# Altium footprint library Connectors.PcbLib: 77 footprints (part 5 of 5)
Each footprint in its own frame and in the unit in brackets; x right, y up, seen from the top. Pads: shape width x height; smd on the part's side, far side on the other; paste and mask are expansions set on the pad; w line width, h text height; cw(c..) or ccw(c..) is an arc to the next point about the centre after c.
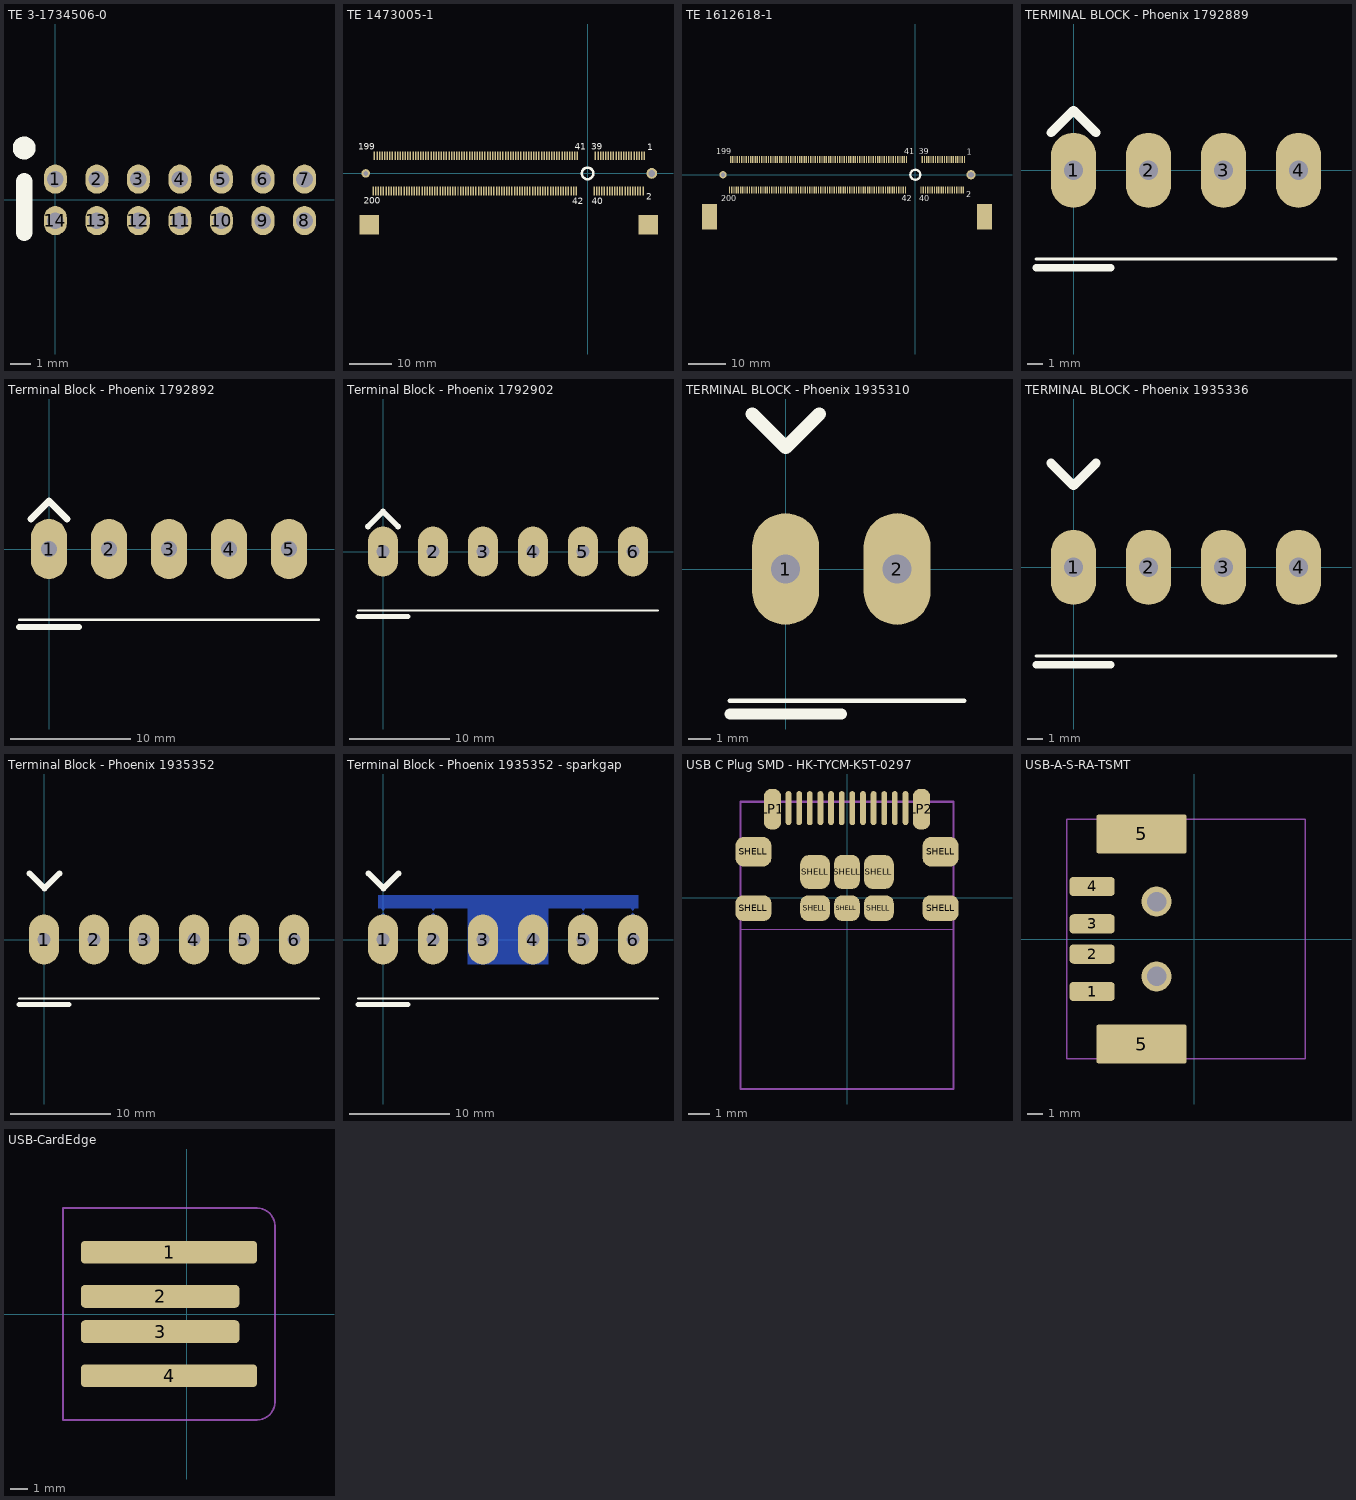
[diagram p4: the footprints below, top view; thin cyan lines are the x and y axes]

## TE 3-1734506-0 [mm] "14-pin female header, 2mm pitch"
pads (14):
  oval 1.1x1.4 hole 0.8 paste-99: 1(0,1) 2(2,1) 3(4,1) 4(6,1) 5(8,1) 6(10,1) 7(12,1) 8(12,-1) 9(10,-1) 10(8,-1) 11(6,-1) 12(4,-1) 13(2,-1) 14(0,-1)
Top Overlay:
  circle w0.6: c-1.5,2.5 r0.25
  lines w0.8: -1.5,-1.59 -1.5,0.9
3D body "c-3-1734506-0-b-3d.stp": height 4.5, standoff -2.6, extent -1,-2 13,2

## TE 1473005-1 [mm]
height 5.2
pads (204):
  rect 0.35x2 smd paste-0.025 mask+0.07: 1(13.25,4.1) 2(12.95,-4.1) 3(12.65,4.1) 4(12.35,-4.1) 5(12.05,4.1) 6(11.75,-4.1) 7(11.45,4.1) 8(11.15,-4.1) 9(10.85,4.1) 10(10.55,-4.1) 11(10.25,4.1) 12(9.95,-4.1) 13(9.65,4.1) 14(9.35,-4.1) 15(9.05,4.1) 16(8.75,-4.1) 17(8.45,4.1) 18(8.15,-4.1) 19(7.85,4.1) 20(7.55,-4.1) 21(7.25,4.1) 22(6.95,-4.1) 23(6.65,4.1) 24(6.35,-4.1) 25(6.05,4.1) 26(5.75,-4.1) 27(5.45,4.1) 28(5.15,-4.1) 29(4.85,4.1) 30(4.55,-4.1) 31(4.25,4.1) 32(3.95,-4.1) 33(3.65,4.1) 34(3.35,-4.1) 35(3.05,4.1) 36(2.75,-4.1) 37(2.45,4.1) 38(2.15,-4.1) 39(1.85,4.1) 40(1.55,-4.1) 41(-2.35,4.1) 42(-2.65,-4.1) 43(-2.95,4.1) 44(-3.25,-4.1) 45(-3.55,4.1) 46(-3.85,-4.1) 47(-4.15,4.1) 48(-4.45,-4.1) 49(-4.75,4.1) 50(-5.05,-4.1) 51(-5.35,4.1) 52(-5.65,-4.1) 53(-5.95,4.1) 54(-6.25,-4.1) 55(-6.55,4.1) 56(-6.85,-4.1) 57(-7.15,4.1) 58(-7.45,-4.1) 59(-7.75,4.1) 60(-8.05,-4.1) 61(-8.35,4.1) 62(-8.65,-4.1) 63(-8.95,4.1) 64(-9.25,-4.1) 65(-9.55,4.1) 66(-9.85,-4.1) 67(-10.15,4.1) 68(-10.45,-4.1) 69(-10.75,4.1) 70(-11.05,-4.1) 71(-11.35,4.1) 72(-11.65,-4.1) 73(-11.95,4.1) 74(-12.25,-4.1) 75(-12.55,4.1) 76(-12.85,-4.1) 77(-13.15,4.1) 78(-13.45,-4.1) 79(-13.75,4.1) 80(-14.05,-4.1) 81(-14.35,4.1) 82(-14.65,-4.1) 83(-14.95,4.1) 84(-15.25,-4.1) 85(-15.55,4.1) 86(-15.85,-4.1) 87(-16.15,4.1) 88(-16.45,-4.1) 89(-16.75,4.1) 90(-17.05,-4.1) 91(-17.35,4.1) 92(-17.65,-4.1) 93(-17.95,4.1) 94(-18.25,-4.1) 95(-18.55,4.1) 96(-18.85,-4.1) 97(-19.15,4.1) 98(-19.45,-4.1) 99(-19.75,4.1) 100(-20.05,-4.1) 101(-20.35,4.1) 102(-20.65,-4.1) 103(-20.95,4.1) 104(-21.25,-4.1) 105(-21.55,4.1) 106(-21.85,-4.1) 107(-22.15,4.1) 108(-22.45,-4.1) 109(-22.75,4.1) 110(-23.05,-4.1) 111(-23.35,4.1) 112(-23.65,-4.1) 113(-23.95,4.1) 114(-24.25,-4.1) 115(-24.55,4.1) 116(-24.85,-4.1) 117(-25.15,4.1) 118(-25.45,-4.1) 119(-25.75,4.1) 120(-26.05,-4.1) 121(-26.35,4.1) 122(-26.65,-4.1) 123(-26.95,4.1) 124(-27.25,-4.1) 125(-27.55,4.1) 126(-27.85,-4.1) 127(-28.15,4.1) 128(-28.45,-4.1) 129(-28.75,4.1) 130(-29.05,-4.1) 131(-29.35,4.1) 132(-29.65,-4.1) 133(-29.95,4.1) 134(-30.25,-4.1) 135(-30.55,4.1) 136(-30.85,-4.1) 137(-31.15,4.1) 138(-31.45,-4.1) 139(-31.75,4.1) 140(-32.05,-4.1) 141(-32.35,4.1) 142(-32.65,-4.1) 143(-32.95,4.1) 144(-33.25,-4.1) 145(-33.55,4.1) 146(-33.85,-4.1) 147(-34.15,4.1) 148(-34.45,-4.1) 149(-34.75,4.1) 150(-35.05,-4.1) 151(-35.35,4.1) 152(-35.65,-4.1) 153(-35.95,4.1) 154(-36.25,-4.1) 155(-36.55,4.1) 156(-36.85,-4.1) 157(-37.15,4.1) 158(-37.45,-4.1) 159(-37.75,4.1) 160(-38.05,-4.1) 161(-38.35,4.1) 162(-38.65,-4.1) 163(-38.95,4.1) 164(-39.25,-4.1) 165(-39.55,4.1) 166(-39.85,-4.1) 167(-40.15,4.1) 168(-40.45,-4.1) 169(-40.75,4.1) 170(-41.05,-4.1) 171(-41.35,4.1) 172(-41.65,-4.1) 173(-41.95,4.1) 174(-42.25,-4.1) 175(-42.55,4.1) 176(-42.85,-4.1) 177(-43.15,4.1) 178(-43.45,-4.1) 179(-43.75,4.1) 180(-44.05,-4.1) 181(-44.35,4.1) 182(-44.65,-4.1) 183(-44.95,4.1) 184(-45.25,-4.1) 185(-45.55,4.1) 186(-45.85,-4.1) 187(-46.15,4.1) 188(-46.45,-4.1) 189(-46.75,4.1) 190(-47.05,-4.1) 191(-47.35,4.1) 192(-47.65,-4.1) 193(-47.95,4.1) 194(-48.25,-4.1) 195(-48.55,4.1) 196(-48.85,-4.1) 197(-49.15,4.1) 198(-49.45,-4.1) 199(-49.75,4.1) 200(-50.05,-4.1)
  round 2 hole 1.1: ""(-51.8,0)
  rect 4.5x4.6 smd paste-0.025 mask+0.07: ""(-50.95,-12) ""(14.15,-12)
  round 2.5 hole 1.6: ""(15,0)
Top Overlay:
  circle w0.6: c0,0 r1.345
  text "42" at -3.6,-7.2 h1.52
  text "40" at 1,-7.2 h1.52
  text "200" at -52.3,-7.1 h1.52
  text "199" at -53.6,5.5 h1.52
  text "41" at -3,5.5 h1.52
  text "39" at 0.9,5.5 h1.52
  text "2" at 13.7,-6.1 h1.52
  text "1" at 13.9,5.4 h1.52
Assembly:
  text ".Designator" at -22.4,-0.2 h1.1
3D body "c-1473005-1-j1-3d.stp": height 5.2, standoff -0.7, extent -54.15,-21.05 17.35,5

## TE 1612618-1 [mm]
height 5.2
pads (204):
  rect 0.35x2 smd paste-0.025 mask+0.07: 1(13.25,4.1) 2(12.95,-4.1) 3(12.65,4.1) 4(12.35,-4.1) 5(12.05,4.1) 6(11.75,-4.1) 7(11.45,4.1) 8(11.15,-4.1) 9(10.85,4.1) 10(10.55,-4.1) 11(10.25,4.1) 12(9.95,-4.1) 13(9.65,4.1) 14(9.35,-4.1) 15(9.05,4.1) 16(8.75,-4.1) 17(8.45,4.1) 18(8.15,-4.1) 19(7.85,4.1) 20(7.55,-4.1) 21(7.25,4.1) 22(6.95,-4.1) 23(6.65,4.1) 24(6.35,-4.1) 25(6.05,4.1) 26(5.75,-4.1) 27(5.45,4.1) 28(5.15,-4.1) 29(4.85,4.1) 30(4.55,-4.1) 31(4.25,4.1) 32(3.95,-4.1) 33(3.65,4.1) 34(3.35,-4.1) 35(3.05,4.1) 36(2.75,-4.1) 37(2.45,4.1) 38(2.15,-4.1) 39(1.85,4.1) 40(1.55,-4.1) 41(-2.35,4.1) 42(-2.65,-4.1) 43(-2.95,4.1) 44(-3.25,-4.1) 45(-3.55,4.1) 46(-3.85,-4.1) 47(-4.15,4.1) 48(-4.45,-4.1) 49(-4.75,4.1) 50(-5.05,-4.1) 51(-5.35,4.1) 52(-5.65,-4.1) 53(-5.95,4.1) 54(-6.25,-4.1) 55(-6.55,4.1) 56(-6.85,-4.1) 57(-7.15,4.1) 58(-7.45,-4.1) 59(-7.75,4.1) 60(-8.05,-4.1) 61(-8.35,4.1) 62(-8.65,-4.1) 63(-8.95,4.1) 64(-9.25,-4.1) 65(-9.55,4.1) 66(-9.85,-4.1) 67(-10.15,4.1) 68(-10.45,-4.1) 69(-10.75,4.1) 70(-11.05,-4.1) 71(-11.35,4.1) 72(-11.65,-4.1) 73(-11.95,4.1) 74(-12.25,-4.1) 75(-12.55,4.1) 76(-12.85,-4.1) 77(-13.15,4.1) 78(-13.45,-4.1) 79(-13.75,4.1) 80(-14.05,-4.1) 81(-14.35,4.1) 82(-14.65,-4.1) 83(-14.95,4.1) 84(-15.25,-4.1) 85(-15.55,4.1) 86(-15.85,-4.1) 87(-16.15,4.1) 88(-16.45,-4.1) 89(-16.75,4.1) 90(-17.05,-4.1) 91(-17.35,4.1) 92(-17.65,-4.1) 93(-17.95,4.1) 94(-18.25,-4.1) 95(-18.55,4.1) 96(-18.85,-4.1) 97(-19.15,4.1) 98(-19.45,-4.1) 99(-19.75,4.1) 100(-20.05,-4.1) 101(-20.35,4.1) 102(-20.65,-4.1) 103(-20.95,4.1) 104(-21.25,-4.1) 105(-21.55,4.1) 106(-21.85,-4.1) 107(-22.15,4.1) 108(-22.45,-4.1) 109(-22.75,4.1) 110(-23.05,-4.1) 111(-23.35,4.1) 112(-23.65,-4.1) 113(-23.95,4.1) 114(-24.25,-4.1) 115(-24.55,4.1) 116(-24.85,-4.1) 117(-25.15,4.1) 118(-25.45,-4.1) 119(-25.75,4.1) 120(-26.05,-4.1) 121(-26.35,4.1) 122(-26.65,-4.1) 123(-26.95,4.1) 124(-27.25,-4.1) 125(-27.55,4.1) 126(-27.85,-4.1) 127(-28.15,4.1) 128(-28.45,-4.1) 129(-28.75,4.1) 130(-29.05,-4.1) 131(-29.35,4.1) 132(-29.65,-4.1) 133(-29.95,4.1) 134(-30.25,-4.1) 135(-30.55,4.1) 136(-30.85,-4.1) 137(-31.15,4.1) 138(-31.45,-4.1) 139(-31.75,4.1) 140(-32.05,-4.1) 141(-32.35,4.1) 142(-32.65,-4.1) 143(-32.95,4.1) 144(-33.25,-4.1) 145(-33.55,4.1) 146(-33.85,-4.1) 147(-34.15,4.1) 148(-34.45,-4.1) 149(-34.75,4.1) 150(-35.05,-4.1) 151(-35.35,4.1) 152(-35.65,-4.1) 153(-35.95,4.1) 154(-36.25,-4.1) 155(-36.55,4.1) 156(-36.85,-4.1) 157(-37.15,4.1) 158(-37.45,-4.1) 159(-37.75,4.1) 160(-38.05,-4.1) 161(-38.35,4.1) 162(-38.65,-4.1) 163(-38.95,4.1) 164(-39.25,-4.1) 165(-39.55,4.1) 166(-39.85,-4.1) 167(-40.15,4.1) 168(-40.45,-4.1) 169(-40.75,4.1) 170(-41.05,-4.1) 171(-41.35,4.1) 172(-41.65,-4.1) 173(-41.95,4.1) 174(-42.25,-4.1) 175(-42.55,4.1) 176(-42.85,-4.1) 177(-43.15,4.1) 178(-43.45,-4.1) 179(-43.75,4.1) 180(-44.05,-4.1) 181(-44.35,4.1) 182(-44.65,-4.1) 183(-44.95,4.1) 184(-45.25,-4.1) 185(-45.55,4.1) 186(-45.85,-4.1) 187(-46.15,4.1) 188(-46.45,-4.1) 189(-46.75,4.1) 190(-47.05,-4.1) 191(-47.35,4.1) 192(-47.65,-4.1) 193(-47.95,4.1) 194(-48.25,-4.1) 195(-48.55,4.1) 196(-48.85,-4.1) 197(-49.15,4.1) 198(-49.45,-4.1) 199(-49.75,4.1) 200(-50.05,-4.1)
  rect 4x6.8 smd paste-0.025 mask+0.07: ""(-55.4,-11.3) ""(18.6,-11.3)
  round 2 hole 1.1: ""(-51.8,0)
  round 2.5 hole 1.6: ""(15,0)
Top Overlay:
  circle w0.6: c0,0 r1.345
  text "42" at -3.6,-7.2 h1.52
  text "40" at 1,-7.2 h1.52
  text "200" at -52.3,-7.1 h1.52
  text "199" at -53.6,5.5 h1.52
  text "41" at -3,5.5 h1.52
  text "39" at 0.9,5.5 h1.52
  text "2" at 13.7,-6.1 h1.52
  text "1" at 13.9,5.4 h1.52
Assembly:
  text ".Designator" at -22.4,-0.2 h1.1
3D body "c-1612618-1-e2-3d.stp": height 9.43, standoff -0.7, extent -56.35,-21.556 19.55,5

## TERMINAL BLOCK - Phoenix 1792889 [mm]
pads (4):
  oval 3x5 hole 1.3 paste-99: 1(0,0) 2(5,0) 3(10,0) 4(15,0)
Top Overlay:
  lines w0.2: -2.5,-5.9 17.5,-5.9
  lines w0.5: -2.5,-6.5 2.5,-6.5
  lines w0.6: -1.5,2.5 0,4 1.5,2.5
Assembly:
  text ".Designator" at 5.6,-0.2 h1.1
3D body "1792889.stp": height 13.72, standoff -2.38, extent -2.5,-5.55 17.5,4.95

## Terminal Block - Phoenix 1792892 [mm]
height 13.6
pads (5):
  oval 3x5 hole 1.3 paste-99: 1(0,0) 2(5,0) 3(10,0) 4(15,0) 5(20,0)
Top Overlay:
  lines w0.2: -2.5,-5.9 22.5,-5.9
  lines w0.5: -2.5,-6.5 2.5,-6.5
  lines w0.6: -1.5,2.5 0,4 1.5,2.5
Assembly:
  text ".Designator" at 7.6,-0.2 h1.1
3D body "1792892.stp": height 13.72, standoff -2.38, extent -2.5,-5.55 22.5,4.95

## Terminal Block - Phoenix 1792902 [mm]
height 13.6
pads (6):
  oval 3x5 hole 1.3 paste-99: 1(0,0) 2(5,0) 3(10,0) 4(15,0) 5(20,0) 6(25,0)
Top Overlay:
  lines w0.2: -2.5,-5.9 27.5,-5.9
  lines w0.5: -2.5,-6.5 2.5,-6.5
  lines w0.6: -1.5,2.5 0,4 1.5,2.5
Assembly:
  text ".Designator" at 9.6,-0.2 h1.1
3D body "1792902.stp": height 13.73, standoff -2.38, extent -2.5,-5.55 27.5,4.95

## TERMINAL BLOCK - Phoenix 1935310 [mm]
pads (2):
  oval 3x5 hole 1.3 paste-99: 1(0,0) 2(5,0)
Top Overlay:
  lines w0.2: -2.5,-5.9 8,-5.9
  lines w0.5: -2.5,-6.5 2.5,-6.5
  lines w0.6: -1.5,6.949 0,5.449 1.5,6.949
Assembly:
  text ".Designator" at 0.6,-0.2 h1.1
3D body "1935310.stp": height 9.33, standoff -3.17, extent -2.5,-5.397 8.07,6.003

## TERMINAL BLOCK - Phoenix 1935336 [mm]
pads (4):
  oval 3x5 hole 1.3 paste-99: 1(0,0) 2(5,0) 3(10,0) 4(15,0)
Top Overlay:
  lines w0.2: -2.5,-5.9 17.5,-5.9
  lines w0.5: -2.5,-6.5 2.5,-6.5
  lines w0.6: -1.5,6.949 0,5.449 1.5,6.949
Assembly:
  text ".Designator" at 5.6,-0.2 h1.1
3D body "1935336.stp": height 9.33, standoff -3.17, extent -2.5,-5.398 18.07,6.002

## Terminal Block - Phoenix 1935352 [mm]
height 13.6
pads (6):
  oval 3x5 hole 1.3 paste-99: 1(0,0) 2(5,0) 3(10,0) 4(15,0) 5(20,0) 6(25,0)
Top Overlay:
  lines w0.2: -2.5,-5.9 27.5,-5.9
  lines w0.5: -2.5,-6.5 2.5,-6.5
  lines w0.6: -1.449,6.619 0.051,5.119 1.551,6.619
Assembly:
  text ".Designator" at 10.6,-0.2 h1.1
3D body "1935352.stp": height 9.33, standoff -3.17, extent -2.5,-5.372 28.07,6.028

## Terminal Block - Phoenix 1935352 - sparkgap [mm]
height 13.6
pads (6):
  oval 3x5 hole 1.3: 1(0,0) 2(5,0) 3(10,0) 4(15,0) 5(20,0) 6(25,0)
Bottom Layer:
  rectangle: -0.508,3.124 25.527,4.445
  rectangle: 8.458,-2.515 16.535,3.124
  region: 0,2.692 -0.203,2.464 0.203,2.464
  region: 0,2.896 0.203,3.124 -0.203,3.124
  region: 5.004,2.896 5.207,3.124 4.801,3.124
  region: 5.004,2.692 4.801,2.464 5.207,2.464
  region: 20.015,2.896 20.218,3.124 19.812,3.124
  region: 20.015,2.692 19.812,2.464 20.218,2.464
  region: 24.994,2.896 25.197,3.124 24.79,3.124
  region: 24.994,2.692 24.79,2.464 25.197,2.464
Top Overlay:
  lines w0.2: -2.5,-5.9 27.5,-5.9
  lines w0.5: -2.5,-6.5 2.5,-6.5
  lines w0.6: -1.449,6.619 0.051,5.119 1.551,6.619
Bottom Solder:
  rectangle: 24.74,2.565 25.248,3.124
  rectangle: 19.761,2.565 20.269,3.124
  rectangle: 4.75,2.565 5.258,3.124
  rectangle: -0.254,2.565 0.254,3.124
Assembly:
  text ".Designator" at 10.6,-0.2 h1.1
3D body "1935352.stp": height 9.33, standoff -3.17, extent -2.5,-5.372 28.07,6.028

## USB C Plug SMD - HK-TYCM-K5T-0297 [mm] "USB-C (USB TYPE-C) USB 2.0 Receptacle Connector 24 (16+8 Dummy) Position Surface Mount, Right Angle; Through Hole"
pads (24):
  rrect100% 0.27x1.6 smd paste-99 mask+0.05: A1(2.75,4.2) A4(1.25,4.2) A5(0.75,4.2) A6(0.25,4.2) A7(-0.25,4.2) A10(-1.75,4.2) A11(-2.25,4.2) B2(-2.75,4.2) B3(-1.25,4.2) B5(-0.75,4.2) B9(1.75,4.2) B12(2.25,4.2)
  rrect80% 0.8x1.9 smd paste-0.07 mask+0.05: LP1(-3.5,4.15) LP2(3.5,4.15)
  rrect60% 1.7x1.2 smd paste-0.05 mask+0.05: SHELL(-4.4,-0.5) SHELL(4.4,-0.5)
  rrect60% 1.7x1.4 smd paste-0.05 mask+0.05: SHELL(-4.4,2.15) SHELL(4.4,2.15)
  rrect60% 1.4x1.2 smd paste-0.1 mask+0.05: SHELL(-1.5,-0.5) SHELL(1.5,-0.5)
  rrect60% 1.4x1.6 smd paste-0.1 mask+0.05: SHELL(-1.5,1.2) SHELL(1.5,1.2)
  rrect60% 1.2x1.2 smd paste-0.1 mask+0.05: SHELL(0,-0.5)
  rrect60% 1.2x1.6 smd paste-0.1 mask+0.05: SHELL(0,1.2)
Top Paste:
  lines w0.22: -2.75,3.9 -2.75,4.8 ; -2.25,3.7 -2.25,4.6 ; -1.75,3.9 -1.75,4.8 ; -1.25,3.7 -1.25,4.6 ; -0.75,3.9 -0.75,4.8 ; -0.25,3.7 -0.25,4.6 ; 0.25,3.9 0.25,4.8 ; 0.75,3.7 0.75,4.6 ; 1.25,3.9 1.25,4.8 ; 1.75,3.7 1.75,4.6 ; 2.25,3.9 2.25,4.8 ; 2.75,3.7 2.75,4.6
Assembly:
  lines w0.05: -5,-1.5 5,-1.5
  lines w0.1: -5,-9 -5,4.5 5,4.5 5,-9 -5,-9
  text ".Designator" at -3.5,0.3 h1.1
3D body "USB C - Plug - SMD - HK-TYCM-K5T-0297.STEP": height 2.55, standoff 0, extent -5,-8.98 5,4.8

## USB-A-S-RA-TSMT [mm] "USB A 2.0, R/A, TRUE SMT, RECEPT"
pads (8):
  rrect40% 3x1.3 smd paste-0.08 mask+0.092: 1(-6.8,-3.5) 2(-6.8,-1) 3(-6.8,1) 4(-6.8,3.5)
  rrect10% 6x2.6 smd paste-0.4: 5(-3.5,-7) 5(-3.5,7)
  round 2 hole 1.3 paste-99: ""(-2.5,-2.5) ""(-2.5,2.5)
Assembly:
  lines w0.1: -8.5,-8 -8.5,8 7.425,8 7.425,-8 -8.5,-8
  text ".Designator" at -3.5,0 h1.1
3D body "CUI_DEVICES_UJ2-AH-1-SMT.step": height 7.6, standoff -0.8, extent -7.375,-7.95 7.425,7.95

## USB-CardEdge [mm] "USB A-type male connector, 2mm PCB thickness."
pads (4):
  rrect40% 10x1.3 smd paste-0.08 mask+0.092: 1(-1,3.5) 4(-1,-3.5)
  rrect40% 9x1.3 smd paste-0.08 mask+0.092: 2(-1.5,1) 3(-1.5,-1)
Assembly:
  lines w0.1: -7,-6 -7,6 4,6 cw(c4,5) 5,5 5,-5 cw(c4,-5) 4,-6 -7,-6